# EAGLE library part PC16D (library PIHER)
POTENTIOMETER tandem carbon potentiometer, 16 mm, S3ROH
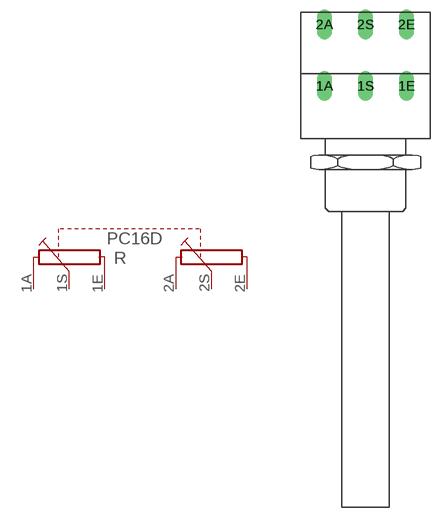
[diagram p0: symbol with the pads of PC16D; footprint PC16D]

Designator prefix R

## PC16D  [PC16D]
1A  1A  pas
1E  1E  pas
1S  1S  pas
2A  2A  pas
2E  2E  pas
2S  2S  pas

## Footprint PC16D (pad centres in mm)
POTENTIOMETER tandem carbon potentiometer, 16 mm
drill 1.2 long: 1A -5,6.5; 1E 5,6.5; 1S 0,6.5; 2A -5,14; 2E 5,14; 2S 0,14